# Altium footprint library QTE-020-01-XXX-D-A.PcbLib: 1 footprints
Each footprint in its own frame and in the unit in brackets; x right, y up, seen from the top. Pads: shape width x height; smd on the part's side, far side on the other; paste and mask are expansions set on the pad; w line width, h text height; cw(c..) or ccw(c..) is an arc to the next point about the centre after c.
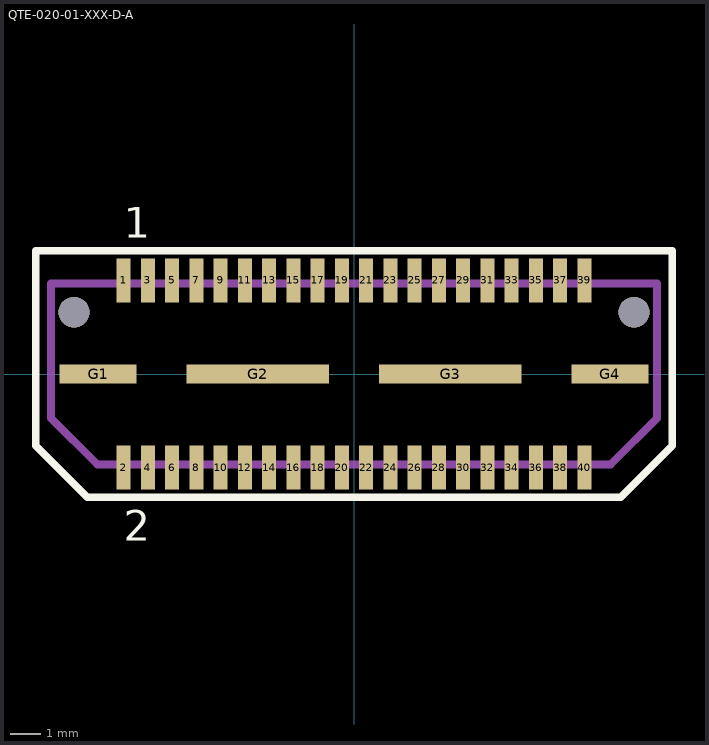
[diagram p0: the footprint, top view; thin cyan lines are the x and y axes]

## QTE-020-01-XXX-D-A [mm]
pads (46):
  rect 0.46x1.45 smd: 1(-7.6,3.09) 2(-7.6,-3.09) 3(-6.8,3.09) 4(-6.8,-3.09) 5(-6,3.09) 6(-6,-3.09) 7(-5.2,3.09) 8(-5.2,-3.09) 9(-4.4,3.09) 10(-4.4,-3.09) 11(-3.6,3.09) 12(-3.6,-3.09) 13(-2.8,3.09) 14(-2.8,-3.09) 15(-2,3.09) 16(-2,-3.09) 17(-1.2,3.09) 18(-1.2,-3.09) 19(-0.4,3.09) 20(-0.4,-3.09) 21(0.4,3.09) 22(0.4,-3.09) 23(1.2,3.09) 24(1.2,-3.09) 25(2,3.09) 26(2,-3.09) 27(2.8,3.09) 28(2.8,-3.09) 29(3.6,3.09) 30(3.6,-3.09) 31(4.4,3.09) 32(4.4,-3.09) 33(5.2,3.09) 34(5.2,-3.09) 35(6,3.09) 36(6,-3.09) 37(6.8,3.09) 38(6.8,-3.09) 39(7.6,3.09) 40(7.6,-3.09)
  rect 2.54x0.64 smd: G1(-8.445,0) G4(8.445,0)
  rect 4.7x0.64 smd: G2(-3.175,0) G3(3.175,0)
  round 1.016 hole 1.016 unplated: ""(-9.24,2.04) ""(9.24,2.04)
Top Overlay:
  lines w0.254: -10.5,-2.364 -8.8,-4.064 8.8,-4.064 10.5,-2.364 10.5,4.064 -10.5,4.064 -10.5,-2.364
  text "2" at -7.602,-5.5 h1
  text "1" at -7.602,4.5 h1
Mechanical 13:
  lines w0.254: -10,-1.46 -8.476,-2.984 8.476,-2.984 10,-1.46 10,2.984 -10,2.984 -10,-1.46
3D body "QTE-020-01-F-D-A.stp": height 4.26, standoff -0.71, extent -10.008,-3.556 10.008,3.556